# EAGLE library part SN74HC165N (library SN74HC165N)
Check prices <https://pricing.snapeda.com/parts/SN74HC165N/Texas%20Instruments/view-part?ref=eda>
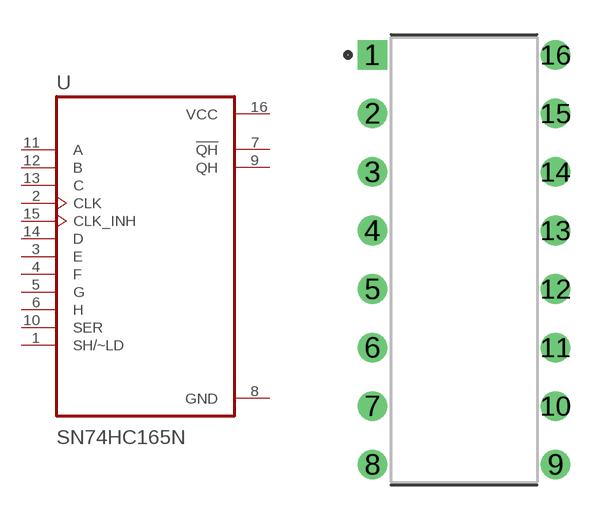
[diagram p0: symbol with the pads of DIP794W45P254L1969H508Q16; footprint DIP794W45P254L1969H508Q16]

Designator prefix U

## SN74HC165N (Availability: Good; Description: 8-Bit Parallel-Load Shift Registers 16-PDIP -40 to 125; MF: Texas Instruments; MP: SN74HC165N; Package: PDIP-16 Texas Instruments; Price: None; Purchase-URL: https://pricing.snapeda.com/search/part/SN74HC165N/?ref=eda)  [DIP794W45P254L1969H508Q16]
1  SH/~LD  in
2  CLK  in
3  E  in
4  F  in
5  G  in
6  H  in
7  !QH  out
8  GND  pwr
9  QH  out
10  SER  in
11  A  in
12  B  in
13  C  in
14  D  in
15  CLK_INH  in
16  VCC  pwr

## Footprint DIP794W45P254L1969H508Q16 (pad centres in mm)
drill 0.78 pad 1.13 square: 1 -3.97,8.89
drill 0.78 pad 1.13: 2 -3.97,6.35; 3 -3.97,3.81; 4 -3.97,1.27; 5 -3.97,-1.27; 6 -3.97,-3.81; 7 -3.97,-6.35; 8 -3.97,-8.89; 9 3.97,-8.89; 10 3.97,-6.35; 11 3.97,-3.81; 12 3.97,-1.27; 13 3.97,1.27; 14 3.97,3.81; 15 3.97,6.35; 16 3.97,8.89